# EAGLE library part SRDA3.3 (library EXCISS)
SRDA3.3 Lightning Surge Protection- SRDA3.3 Series SRDA3.3 Series 8pF 35A Diode Array Links Datasheet <http://www.littelfuse.com/~/media/electronics/datasheets/tvs_diode_arrays/littelfuse_tvs_diode_array_srda3_3_datasheet.pdf.pdf> Product website <http://www.littelfuse.com/products/tvs-diode-arrays/lightning-surge-protection/srda3_3.aspx>
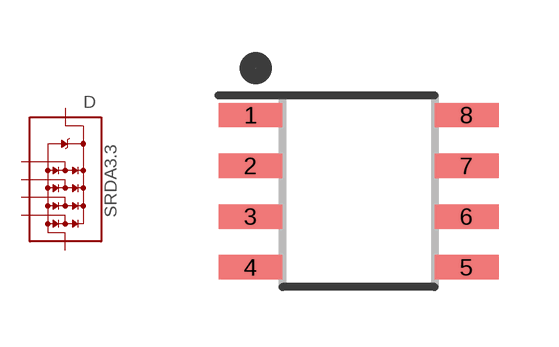
[diagram p30: symbol with the pads of SOIC8; footprint SOIC8]

Designator prefix D

## SRDA3.3 (OC_MOUSER: 576-SRDA3.3-4BTG)  [SOIC8]
1  I/O1
2  REF1  pas
3  REF1  pas
4  I/O2
5  REF2  pas
6  I/O3
7  I/O4
8  REF2  pas

## Footprint SOIC8 (pad centres in mm)
smd 1.6 x 0.61: 1 -2.7,1.905; 2 -2.7,0.635; 3 -2.7,-0.635; 4 -2.7,-1.905; 5 2.7,-1.905; 6 2.7,-0.635; 7 2.7,0.635; 8 2.7,1.905